# Altium schematic symbol library 10_pin_Box_Header_Sch.SchLib: 1 symbol
Pins are listed as number, name and electrical type; pins without a type are passive.

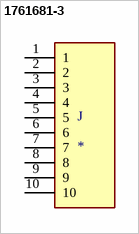
[diagram p0: symbol 1761681-3]

## 1761681-3
designator J
Conn Shrouded Header HDR 10 POS 2.54mm Solder ST Thru-Hole Tray; MP: 1761681-3; MF: TE Connectivity; Availability: Unavailable; SnapEDA_Link: https://www.snapeda.com/parts/1761681-3/TE%20Connectivity%20AMP%20Connectors/view-part/494554/?ref=snap; Price: None; Package: None; Value: *
footprint TE_1761681-3
pins: 1, 2, 3, 4, 5, 6, 7, 8, 9, 10